# EAGLE library part WE-DS_212613003 (library Wurth_Elektronik_Passive_rev16b)
WE-DS D-SUB-Filter Solder Cup Characteristics Easy soldering, even for small strand cross sections Standard type filtered with 1000 pF High attenuation: max. ≥ 40 dB @ 180 MHz Choice of UNC 4/40 or through hole Rated voltage: 100 VDC Rated current @ 20 ºC: 5 A Withstand voltage: 250 VRMS Insulation resistance: min. 1000 MΩ Operating temperature: –55 ºC to +125 ºC Applications Filtering of interfaces External connection to -printer -sensor -display <http://katalog.we-online.de/media/thumbs2/eisos/thb_AbsDSubFilter_Loetkelch_pf2.jpg> Details see: http://katalog.we-online.de/en/pbs/Filter_Loetkelch Created on 2015-05-05 2015 (C) Wurth Elektronik
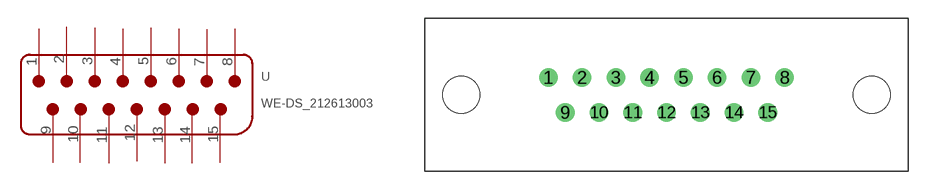
[diagram p199: symbol with the pads of WE-DS_212613003; footprint WE-DS_212613003]

Designator prefix -

## WE-DS_212613003  [WE-DS_212613003]
1  1
2  2
3  3
4  4
5  5
6  6
7  7
8  8
9  9
10  10
11  11
12  12
13  13
14  14
15  15

## Footprint WE-DS_212613003 (pad centres in mm)
drill 1: 1 -9.59,0; 2 -6.85,0; 3 -4.11,0; 4 -1.37,0; 5 1.37,0; 6 4.11,0; 7 6.85,0; 8 9.59,0; 9 -8.22,-2.84; 10 -5.48,-2.84; 11 -2.74,-2.84; 12 0,-2.84; 13 2.74,-2.84; 14 5.48,-2.84; 15 8.22,-2.84
hole 3 at -16.65,-1.42
hole 3 at 16.65,-1.42